# EAGLE library part IR2117S (library IR2117S)
Single channel driver, 8-lead SOIC Source: Datasheet <http://www.infineon.com/dgdl/ir2117.pdf?fileId=5546d462533600a4015355c84331168d>
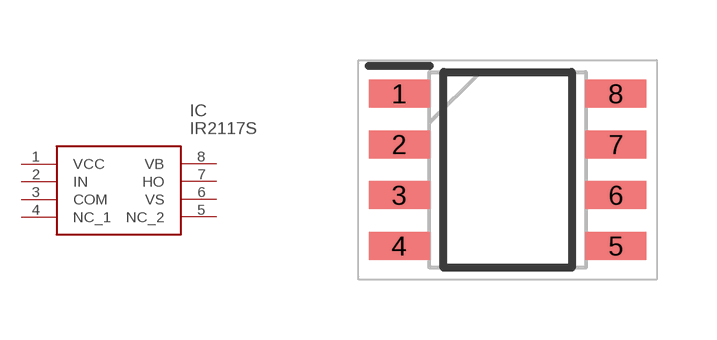
[diagram p0: symbol with the pads of SOIC127P600X175-8N; footprint SOIC127P600X175-8N]

Designator prefix IC

## IR2117S (Description: Single channel driver, 8-lead SOIC; Height: 1.75mm; Manufacturer_Name: Infineon; Manufacturer_Part_Number: IR2117S)  [SOIC127P600X175-8N]
1  VCC
2  IN
3  COM
4  NC_1
5  NC_2
6  VS
7  HO
8  VB

## Footprint SOIC127P600X175-8N (pad centres in mm)
8-Lead SOIC
smd 1.525 x 0.7: 1 -2.712,1.905; 2 -2.712,0.635; 3 -2.712,-0.635; 4 -2.712,-1.905; 5 2.712,-1.905; 6 2.712,-0.635; 7 2.712,0.635; 8 2.712,1.905